# EAGLE library part 7-1415537-8 (library Relays)
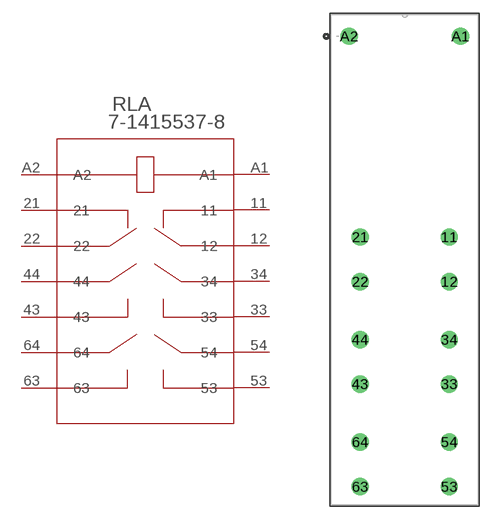
[diagram p56: symbol with the pads of RELAY14_SR6B; footprint RELAY14_SR6B]

Designator prefix RLA

## 7-1415537-8 (BUILT_BY: EMA_UL_Team; CATEGORY: Power Relays; CONTACT_ARRANGEMENT: 4 Form A (NO) + 2 Form B (NC); COPYRIGHT: Copyright (C) 2016 Accelerated Designs. All rights reserved; DESCRIPTION: SR6B6K18; MANUFACTURER_PART_NUMBER: 7-1415537-8; MAXIMUM_SWITCHING_CURRENT: -; MAXIMUM_SWITCHING_VOLTAGE: -; PART_STATUS: active; PRODUCT_TYPE: -; RELAY_TYPE: -; SERIES: SCHRACK Force Guided Relay SR6 A/B/C/V; TE_PART_NUMBER: 7-1415537-8; VENDOR: TE Connectivity)  [RELAY14_SR6B]
11  11  pas
12  12  pas
21  21  pas
22  22  pas
33  33  pas
34  34  pas
43  43  pas
44  44  pas
53  53  pas
54  54  pas
63  63  pas
64  64  pas
A1  A1  pas
A2  A2  pas

## Footprint RELAY14_SR6B (pad centres in mm)
drill 1.295 pad 1.803: 11 11.252,-22.504; 12 11.252,-27.508; 21 1.245,-22.504; 22 1.245,-27.508; 33 11.252,-38.989; 34 11.252,-34.011; 43 1.245,-38.989; 44 1.245,-34.011; 53 11.252,-50.495; 54 11.252,-45.491; 63 1.245,-50.495; 64 1.245,-45.491; A1 12.497,0; A2 0,0